# Altium schematic symbol library SCH - MCU - NUVOTON - NUVOTON M071R1D3AE.SchLib: 1 symbol
Pins are listed as number, name and electrical type; pins without a type are passive.

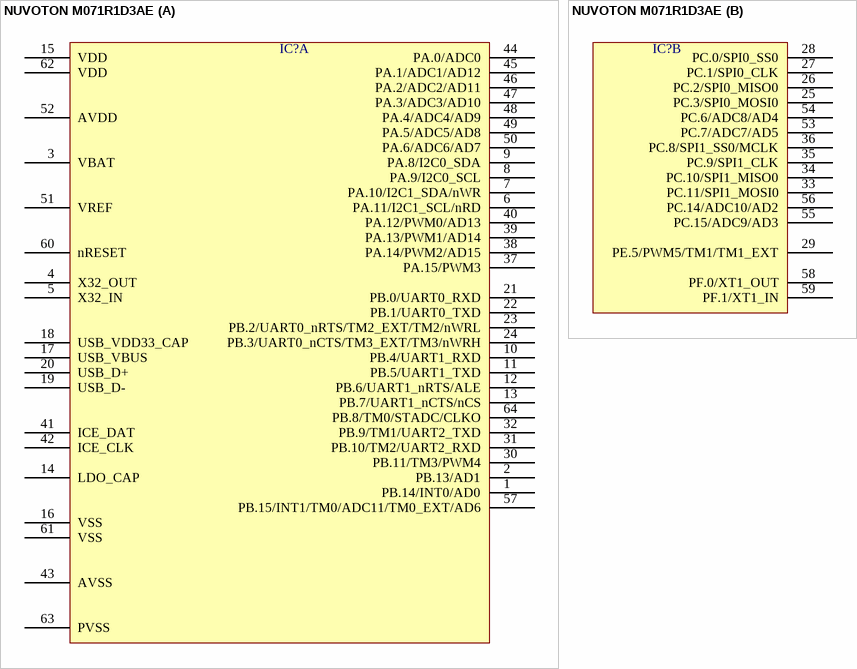
[diagram p0: symbol NUVOTON M071R1D3AE]

## NUVOTON M071R1D3AE
designator IC?  (value not drawn)
part A pins: 1 PB.14/INT0/AD0, 2 PB.13/AD1, 3 VBAT, 4 X32_OUT, 5 X32_IN, 6 PA.11/I2C1_SCL/nRD, 7 PA.10/I2C1_SDA/nWR, 8 PA.9/I2C0_SCL, 9 PA.8/I2C0_SDA, 10 PB.4/UART1_RXD, 11 PB.5/UART1_TXD, 12 PB.6/UART1_nRTS/ALE, 13 PB.7/UART1_nCTS/nCS, 14 LDO_CAP, 15 VDD, 16 VSS, 17 USB_VBUS, 18 USB_VDD33_CAP, 19 USB_D-, 20 USB_D+, 21 PB.0/UART0_RXD, 22 PB.1/UART0_TXD, 23 PB.2/UART0_nRTS/TM2_EXT/TM2/nWRL, 24 PB.3/UART0_nCTS/TM3_EXT/TM3/nWRH, 30 PB.11/TM3/PWM4, 31 PB.10/TM2/UART2_RXD, 32 PB.9/TM1/UART2_TXD, 37 PA.15/PWM3, 38 PA.14/PWM2/AD15, 39 PA.13/PWM1/AD14, 40 PA.12/PWM0/AD13, 41 ICE_DAT, 42 ICE_CLK, 43 AVSS, 44 PA.0/ADC0, 45 PA.1/ADC1/AD12, 46 PA.2/ADC2/AD11, 47 PA.3/ADC3/AD10, 48 PA.4/ADC4/AD9, 49 PA.5/ADC5/AD8, 50 PA.6/ADC6/AD7, 51 VREF, 52 AVDD, 57 PB.15/INT1/TM0/ADC11/TM0_EXT/AD6, 60 nRESET, 61 VSS, 62 VDD, 63 PVSS, 64 PB.8/TM0/STADC/CLKO
part B pins: 25 PC.3/SPI0_MOSI0, 26 PC.2/SPI0_MISO0, 27 PC.1/SPI0_CLK, 28 PC.0/SPI0_SS0, 29 PE.5/PWM5/TM1/TM1_EXT, 33 PC.11/SPI1_MOSI0, 34 PC.10/SPI1_MISO0, 35 PC.9/SPI1_CLK, 36 PC.8/SPI1_SS0/MCLK, 53 PC.7/ADC7/AD5, 54 PC.6/ADC8/AD4, 55 PC.15/ADC9/AD3, 56 PC.14/ADC10/AD2, 58 PF.0/XT1_OUT, 59 PF.1/XT1_IN